# Altium footprint library AUVic_PCB_Library_Transistors.PcbLib: 14 footprints
Each footprint in its own frame and in the unit in brackets; x right, y up, seen from the top. Pads: shape width x height; smd on the part's side, far side on the other; paste and mask are expansions set on the pad; w line width, h text height; cw(c..) or ccw(c..) is an arc to the next point about the centre after c.
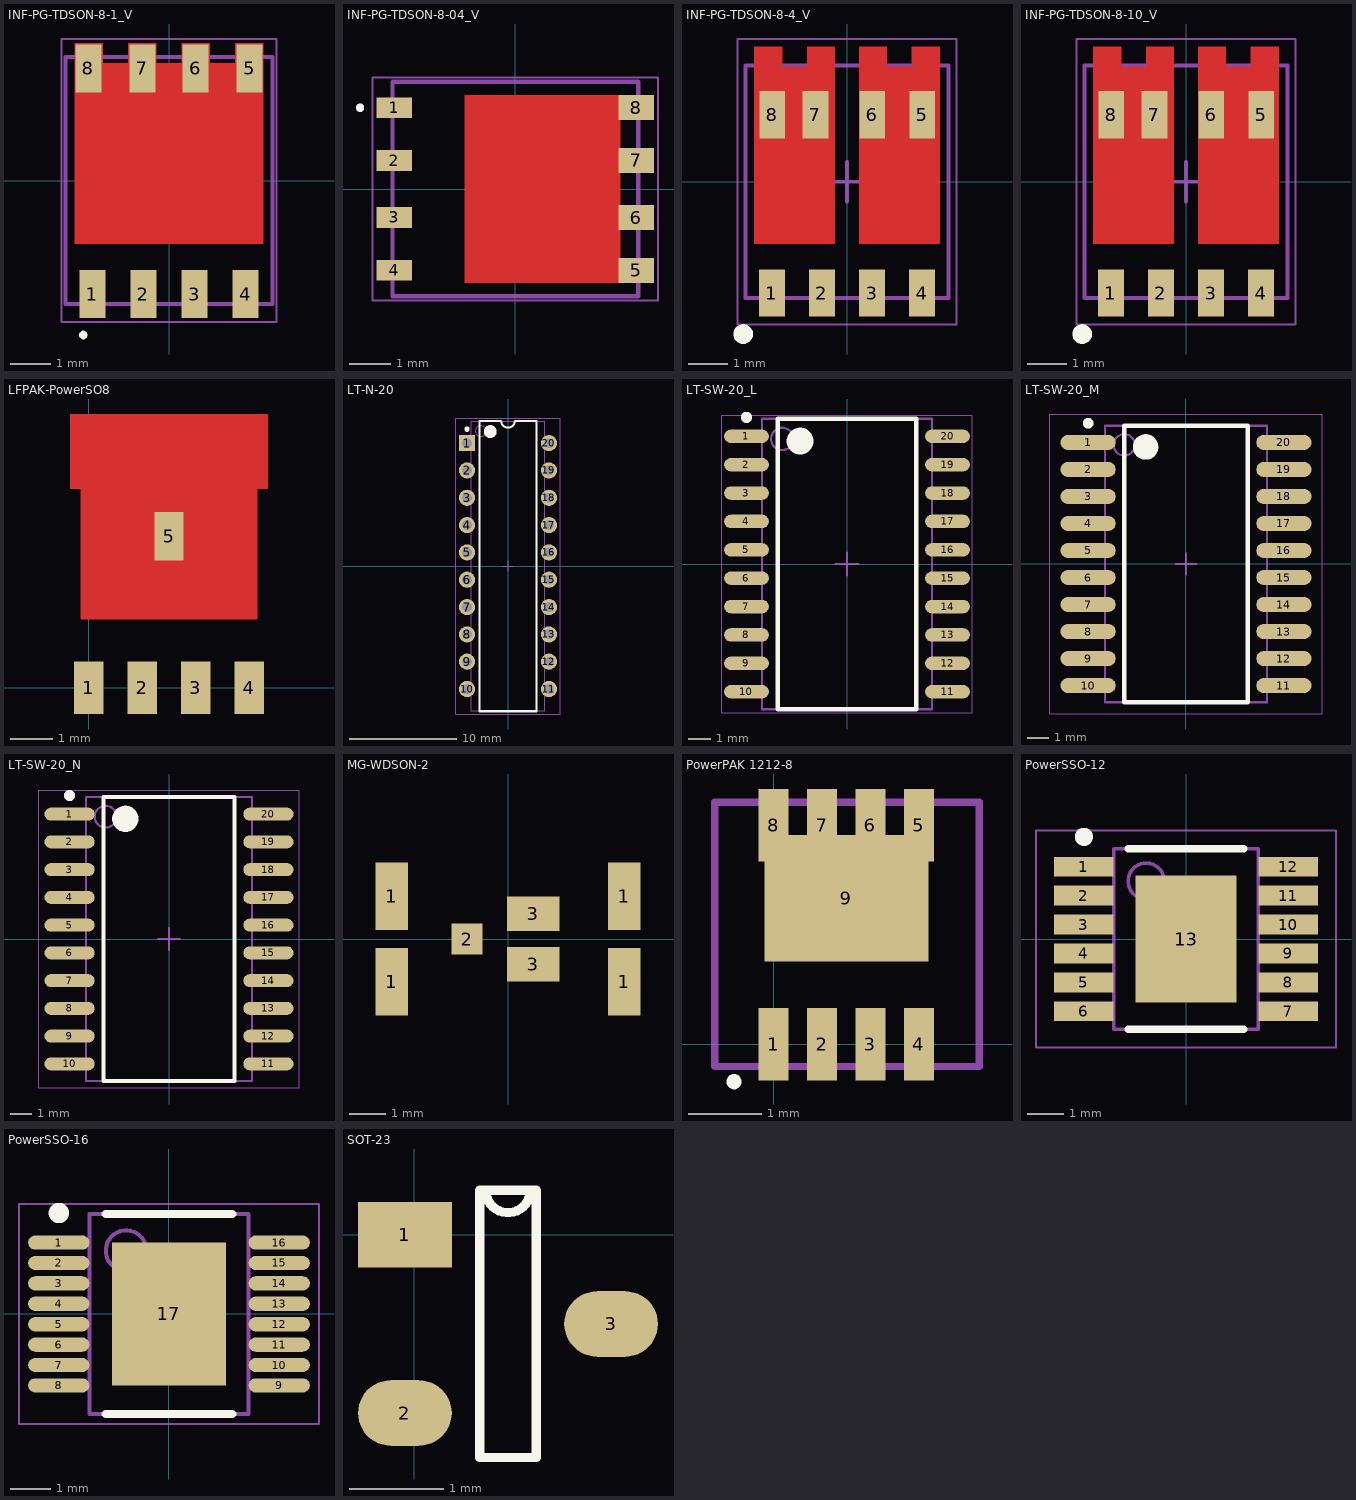
[diagram p0: the footprints below, top view; thin cyan lines are the x and y axes]

## INF-PG-TDSON-8-1_V [mm] "TDSON, 8-Leads, Body 6.15x5.15mm, Pitch 1.27mm"
height 1
pads (8):
  rect 0.65x1.2 smd: 1(-1.905,-2.825) 2(-0.635,-2.825) 3(0.635,-2.825) 4(1.905,-2.825) 5(2.007,2.794) 6(0.66,2.794) 7(-0.66,2.794) 8(-2.007,2.794)
Top Layer:
  region: -2.35,2.925 -2.35,-1.575 2.35,-1.575 2.35,2.925
  region: -2.35,2.925 -1.65,2.925 -1.65,3.425 -2.35,3.425
  region: 1.65,2.925 2.35,2.925 2.35,3.425 1.65,3.425
  region: -1.015,2.925 -0.315,2.925 -0.315,3.425 -1.015,3.425
  region: 0.315,2.925 1.015,2.925 1.015,3.425 0.315,3.425
Top Overlay:
  region: -2.234,-3.842 -2.234,-3.862 -2.218,-3.899 -2.19,-3.927 -2.153,-3.942 -2.134,-3.942 -2.114,-3.942 -2.077,-3.927 -2.049,-3.899 -2.034,-3.862 -2.034,-3.842 -2.034,-3.822 -2.049,-3.785 -2.077,-3.757 -2.114,-3.742 -2.134,-3.742 -2.153,-3.742 -2.19,-3.757 -2.218,-3.785 -2.234,-3.822
Body Top:
  lines w0.1: -2.575,-3.075 -2.575,3.075 2.575,3.075 2.575,-3.075 -2.575,-3.075
  text ".Designator" at 0.8,-5.2 h1
Courtyard Top:
  lines w0.05: -2.675,-3.525 -2.675,3.525 2.675,3.525 2.675,-3.525 -2.675,-3.525
  lines w0.1: -0.5,0 0.5,0 ; 0,-0.5 0,0.5
3D body "User Library-TDSON-8-1.step": height 1, standoff 0, extent -2.675,-3.075 2.675,3.075

## INF-PG-TDSON-8-04_V [mm] "SON, 8-Leads, Body 5.9x5.15mm, Pitch 1.27mm"
height 1.1
pads (8):
  rect 0.85x0.5 smd: 1(-2.9,1.95) 2(-2.9,0.68) 3(-2.9,-0.68) 4(-2.9,-1.95)
  rect 0.85x0.6 smd: 5(2.9,-1.955) 6(2.9,-0.685) 7(2.9,0.685) 8(2.9,1.955)
Top Layer:
  region: -1.225,2.255 -1.225,-2.255 2.525,-2.255 2.525,2.255
Top Overlay:
  circle w0.1: c-3.725,1.95 r0.05
Body Top:
  lines w0.1: -2.95,-2.575 2.95,-2.575 2.95,2.575 -2.95,2.575 -2.95,-2.575
Courtyard Top:
  lines w0.05: -3.425,-2.675 3.425,-2.675 3.425,2.675 -3.425,2.675 -3.425,-2.675
  lines w0.1: -0.5,0 0.5,0 ; 0,-0.5 0,0.5
3D body "User Library-TDSON-8-1.step": height 1, standoff 0, extent -3.075,-2.675 3.075,2.675

## INF-PG-TDSON-8-4_V [mm] "SON, 8-Leads, Body 5.9x5.15mm, Pitch 1.27mm"
height 1
pads (8):
  rect 0.65x1.2 smd: 1(-1.905,-2.825) 2(-0.635,-2.825) 3(0.635,-2.825) 4(1.905,-2.825) 5(1.91,1.7) 6(0.64,1.7) 7(-0.8,1.7) 8(-1.9,1.7)
Top Layer:
  region: -2.35,3.425 -1.65,3.425 -1.65,2.925 -1.015,2.925 -1.015,3.425 -0.315,3.425 -0.315,-1.575 -2.35,-1.575
  region: 2.35,3.425 1.65,3.425 1.65,2.925 1.015,2.925 1.015,3.425 0.315,3.425 0.315,-1.575 2.35,-1.575
Top Overlay:
  circle w0.25: c-2.635,-3.868 r0.125
Body Top:
  lines w0.1: -2.575,-2.95 -2.575,2.95 2.575,2.95 2.575,-2.95 -2.575,-2.95
Courtyard Top:
  lines w0.05: -2.775,-3.625 -2.775,3.625 2.775,3.625 2.775,-3.625 -2.775,-3.625
  lines w0.1: -0.5,0 0.5,0 ; 0,-0.5 0,0.5
3D body: height 1, standoff 0.25, extent -2.575,-2.95 2.575,2.95

## INF-PG-TDSON-8-10_V [mm] "SON, 8-Leads, Body 5.9x5.15mm, Pitch 1.27mm"
height 1
pads (8):
  rect 0.65x1.2 smd: 1(-1.905,-2.825) 2(-0.635,-2.825) 3(0.635,-2.825) 4(1.905,-2.825) 5(1.91,1.7) 6(0.64,1.7) 7(-0.8,1.7) 8(-1.9,1.7)
Top Layer:
  region: -2.35,3.425 -1.65,3.425 -1.65,2.925 -1.015,2.925 -1.015,3.425 -0.315,3.425 -0.315,-1.575 -2.35,-1.575
  region: 2.35,3.425 1.65,3.425 1.65,2.925 1.015,2.925 1.015,3.425 0.315,3.425 0.315,-1.575 2.35,-1.575
Top Overlay:
  circle w0.25: c-2.635,-3.868 r0.125
Body Top:
  lines w0.1: -2.575,-2.95 -2.575,2.95 2.575,2.95 2.575,-2.95 -2.575,-2.95
Courtyard Top:
  lines w0.05: -2.775,-3.625 -2.775,3.625 2.775,3.625 2.775,-3.625 -2.775,-3.625
  lines w0.1: -0.5,0 0.5,0 ; 0,-0.5 0,0.5
3D body: height 1, standoff 0.25, extent -2.575,-2.95 2.575,2.95

## LFPAK-PowerSO8 [mm] "LFPAK-PowerSO8"
pads (5):
  rect 0.7x1.25 smd: 1(0,0) 2(1.27,0) 3(2.54,0) 4(3.81,0)
  rect 0.7x1.15 smd: 5(1.905,3.6)
Top Layer:
  region: -0.195,1.625 4.005,1.625 4.005,4.725 4.255,4.725 4.255,6.5 3.74,6.5 3.1,6.5 1.9,6.5 -0.445,6.5 -0.445,4.725 -0.195,4.725
3D body "User Library-LFPAK.STEP": height 1.09, standoff -0.01, extent -0.595,-0.4 4.405,6.2

## LT-N-20 [mm] "DIP, 20-Leads, Body 26.924x6.477mm, Pitch 2.54mm"
height 4.2
pads (20):
  rect 1.5x1.5 hole 0.9: 1(-3.81,11.43)
  round 1.5 hole 0.9: 2(-3.81,8.89) 3(-3.81,6.35) 4(-3.81,3.81) 5(-3.81,1.27) 6(-3.81,-1.27) 7(-3.81,-3.81) 8(-3.81,-6.35) 9(-3.81,-8.89) 10(-3.81,-11.43) 11(3.81,-11.43) 12(3.81,-8.89) 13(3.81,-6.35) 14(3.81,-3.81) 15(3.81,-1.27) 16(3.81,1.27) 17(3.81,3.81) 18(3.81,6.35) 19(3.81,8.89) 20(3.81,11.43)
Top Overlay:
  circle w0.6: c-1.65,12.5 r0.3
  circle w0.25: c-3.81,12.73 r0.125
  lines w0.2: -2.65,-13.5 2.65,-13.5 2.65,13.5 0.635,13.5 cw(c0,13.5) -0.635,13.5 -2.65,13.5 -2.65,-13.5
Body Top:
  circle w0.1: c-2.525,12.55 r0.5
  lines w0.1: -3.425,-13.45 3.425,-13.45 3.425,13.45 -3.425,13.45 -3.425,-13.45
Courtyard Top:
  lines w0.05: -4.85,-13.75 4.85,-13.75 4.85,13.75 -4.85,13.75 -4.85,-13.75
  lines w0.1: -0.5,0 0.5,0 ; 0,-0.5 0,0.5
3D body: height 4.2, standoff 0.51, extent -3.425,-13.45 3.425,13.45
3D body: height 0, standoff -1.6, extent 3.675,11.07 3.945,11.79
3D body: height 2.49, standoff 2.21, extent 3.425,10.93 3.945,11.93
3D body: height 2.22, standoff 0, extent 3.675,10.93 3.945,11.93
3D body: height 0, standoff -1.6, extent 3.675,8.53 3.945,9.25
3D body: height 2.49, standoff 2.21, extent 3.425,8.39 3.945,9.39
3D body: height 2.22, standoff 0, extent 3.675,8.39 3.945,9.39
3D body: height 0, standoff -1.6, extent 3.675,5.99 3.945,6.71
3D body: height 2.49, standoff 2.21, extent 3.425,5.85 3.945,6.85
3D body: height 2.22, standoff 0, extent 3.675,5.85 3.945,6.85
3D body: height 0, standoff -1.6, extent 3.675,3.45 3.945,4.17
3D body: height 2.49, standoff 2.21, extent 3.425,3.31 3.945,4.31
3D body: height 2.22, standoff 0, extent 3.675,3.31 3.945,4.31
3D body: height 0, standoff -1.6, extent 3.675,0.91 3.945,1.63
3D body: height 2.49, standoff 2.21, extent 3.425,0.77 3.945,1.77
3D body: height 2.22, standoff 0, extent 3.675,0.77 3.945,1.77
3D body: height 0, standoff -1.6, extent 3.675,-1.63 3.945,-0.91
3D body: height 2.49, standoff 2.21, extent 3.425,-1.77 3.945,-0.77
3D body: height 2.22, standoff 0, extent 3.675,-1.77 3.945,-0.77
3D body: height 0, standoff -1.6, extent 3.675,-4.17 3.945,-3.45
3D body: height 2.49, standoff 2.21, extent 3.425,-4.31 3.945,-3.31
3D body: height 2.22, standoff 0, extent 3.675,-4.31 3.945,-3.31
3D body: height 0, standoff -1.6, extent 3.675,-6.71 3.945,-5.99
3D body: height 2.49, standoff 2.21, extent 3.425,-6.85 3.945,-5.85
3D body: height 2.22, standoff 0, extent 3.675,-6.85 3.945,-5.85
3D body: height 0, standoff -1.6, extent 3.675,-9.25 3.945,-8.53
3D body: height 2.49, standoff 2.21, extent 3.425,-9.39 3.945,-8.39
3D body: height 2.22, standoff 0, extent 3.675,-9.39 3.945,-8.39
3D body: height 0, standoff -1.6, extent 3.675,-11.79 3.945,-11.07
3D body: height 2.49, standoff 2.21, extent 3.425,-11.93 3.945,-10.93
3D body: height 2.22, standoff 0, extent 3.675,-11.93 3.945,-10.93
3D body: height 0, standoff -1.6, extent -3.945,-11.79 -3.675,-11.07
3D body: height 2.49, standoff 2.21, extent -3.945,-11.93 -3.425,-10.93
3D body: height 2.22, standoff 0, extent -3.945,-11.93 -3.675,-10.93
3D body: height 0, standoff -1.6, extent -3.945,-9.25 -3.675,-8.53
3D body: height 2.49, standoff 2.21, extent -3.945,-9.39 -3.425,-8.39
3D body: height 2.22, standoff 0, extent -3.945,-9.39 -3.675,-8.39
3D body: height 0, standoff -1.6, extent -3.945,-6.71 -3.675,-5.99
3D body: height 2.49, standoff 2.21, extent -3.945,-6.85 -3.425,-5.85
3D body: height 2.22, standoff 0, extent -3.945,-6.85 -3.675,-5.85
3D body: height 0, standoff -1.6, extent -3.945,-4.17 -3.675,-3.45
3D body: height 2.49, standoff 2.21, extent -3.945,-4.31 -3.425,-3.31
3D body: height 2.22, standoff 0, extent -3.945,-4.31 -3.675,-3.31
3D body: height 0, standoff -1.6, extent -3.945,-1.63 -3.675,-0.91
3D body: height 2.49, standoff 2.21, extent -3.945,-1.77 -3.425,-0.77
3D body: height 2.22, standoff 0, extent -3.945,-1.77 -3.675,-0.77
3D body: height 0, standoff -1.6, extent -3.945,0.91 -3.675,1.63
3D body: height 2.49, standoff 2.21, extent -3.945,0.77 -3.425,1.77
3D body: height 2.22, standoff 0, extent -3.945,0.77 -3.675,1.77
3D body: height 0, standoff -1.6, extent -3.945,3.45 -3.675,4.17
3D body: height 2.49, standoff 2.21, extent -3.945,3.31 -3.425,4.31
3D body: height 2.22, standoff 0, extent -3.945,3.31 -3.675,4.31
3D body: height 0, standoff -1.6, extent -3.945,5.99 -3.675,6.71
3D body: height 2.49, standoff 2.21, extent -3.945,5.85 -3.425,6.85
3D body: height 2.22, standoff 0, extent -3.945,5.85 -3.675,6.85
3D body: height 0, standoff -1.6, extent -3.945,8.53 -3.675,9.25
3D body: height 2.49, standoff 2.21, extent -3.945,8.39 -3.425,9.39
3D body: height 2.22, standoff 0, extent -3.945,8.39 -3.675,9.39
3D body: height 0, standoff -1.6, extent -3.945,11.07 -3.675,11.79
3D body: height 2.49, standoff 2.21, extent -3.945,10.93 -3.425,11.93
3D body: height 2.22, standoff 0, extent -3.945,10.93 -3.675,11.93

## LT-SW-20_L [mm] "SOIC, 20-Leads, Body 12.8x7.49mm, Pitch 1.27mm, IPC High Density"
height 2.65
pads (20):
  oval 2x0.6 smd: 1(-4.5,5.715) 2(-4.5,4.445) 3(-4.5,3.175) 4(-4.5,1.905) 5(-4.5,0.635) 6(-4.5,-0.635) 7(-4.5,-1.905) 8(-4.5,-3.175) 9(-4.5,-4.445) 10(-4.5,-5.715) 11(4.5,-5.715) 12(4.5,-4.445) 13(4.5,-3.175) 14(4.5,-1.905) 15(4.5,-0.635) 16(4.5,0.635) 17(4.5,1.905) 18(4.5,3.175) 19(4.5,4.445) 20(4.5,5.715)
Top Overlay:
  circle w0.6: c-2.1,5.5 r0.3
  circle w0.25: c-4.5,6.565 r0.125
  lines w0.2: -3.1,-6.5 3.1,-6.5 3.1,6.5 -3.1,6.5 -3.1,-6.5
Body Top:
  circle w0.1: c-2.9,5.6 r0.5
  lines w0.1: -3.8,-6.5 3.8,-6.5 3.8,6.5 -3.8,6.5 -3.8,-6.5
Courtyard Top:
  lines w0.05: -5.6,-6.65 5.6,-6.65 5.6,6.65 -5.6,6.65 -5.6,-6.65
  lines w0.1: -0.5,0 0.5,0 ; 0,-0.5 0,0.5
3D body: height 2.65, standoff 0.1, extent -3.8,-6.5 3.8,6.5

## LT-SW-20_M [mm] "SOIC, 20-Leads, Body 12.8x7.49mm, Pitch 1.27mm, IPC Low Density"
height 2.65
pads (20):
  oval 2.6x0.7 smd: 1(-4.6,5.715) 2(-4.6,4.445) 3(-4.6,3.175) 4(-4.6,1.905) 5(-4.6,0.635) 6(-4.6,-0.635) 7(-4.6,-1.905) 8(-4.6,-3.175) 9(-4.6,-4.445) 10(-4.6,-5.715) 11(4.6,-5.715) 12(4.6,-4.445) 13(4.6,-3.175) 14(4.6,-1.905) 15(4.6,-0.635) 16(4.6,0.635) 17(4.6,1.905) 18(4.6,3.175) 19(4.6,4.445) 20(4.6,5.715)
Top Overlay:
  circle w0.6: c-1.9,5.5 r0.3
  circle w0.25: c-4.6,6.615 r0.125
  lines w0.2: -2.9,-6.5 2.9,-6.5 2.9,6.5 -2.9,6.5 -2.9,-6.5
Body Top:
  circle w0.1: c-2.9,5.6 r0.5
  lines w0.1: -3.8,-6.5 3.8,-6.5 3.8,6.5 -3.8,6.5 -3.8,-6.5
Courtyard Top:
  lines w0.05: -6.4,-7.05 6.4,-7.05 6.4,7.05 -6.4,7.05 -6.4,-7.05
  lines w0.1: -0.5,0 0.5,0 ; 0,-0.5 0,0.5
3D body: height 2.65, standoff 0.1, extent -3.8,-6.5 3.8,6.5

## LT-SW-20_N [mm] "SOIC, 20-Leads, Body 12.8x7.49mm, Pitch 1.27mm, IPC Medium Density"
height 2.65
pads (20):
  oval 2.3x0.6 smd: 1(-4.55,5.715) 2(-4.55,4.445) 3(-4.55,3.175) 4(-4.55,1.905) 5(-4.55,0.635) 6(-4.55,-0.635) 7(-4.55,-1.905) 8(-4.55,-3.175) 9(-4.55,-4.445) 10(-4.55,-5.715) 11(4.55,-5.715) 12(4.55,-4.445) 13(4.55,-3.175) 14(4.55,-1.905) 15(4.55,-0.635) 16(4.55,0.635) 17(4.55,1.905) 18(4.55,3.175) 19(4.55,4.445) 20(4.55,5.715)
Top Overlay:
  circle w0.25: c-4.55,6.565 r0.125
  circle w0.6: c-2,5.5 r0.3
  lines w0.2: -3,-6.5 -3,6.5 3,6.5 3,-6.5 -3,-6.5
Body Top:
  circle w0.1: c-2.9,5.6 r0.5
  lines w0.1: -3.8,-6.5 -3.8,6.5 3.8,6.5 3.8,-6.5 -3.8,-6.5
Courtyard Top:
  lines w0.05: -5.95,-6.8 -5.95,6.8 5.95,6.8 5.95,-6.8 -5.95,-6.8
  lines w0.1: -0.5,0 0.5,0 ; 0,-0.5 0,0.5
3D body: height 2.65, standoff 0.1, extent -3.8,-6.5 3.8,6.5

## MG-WDSON-2 [mm] "CanPAK MG-WDSON-2 MN"
pads (7):
  rect 0.9x1.85 smd: 1(-3.2,-1.175) 1(-3.2,1.175) 1(3.2,-1.175) 1(3.2,1.175)
  rect 0.85x0.85 smd: 2(-1.125,0)
  rect 1.45x0.95 smd: 3(0.695,-0.7) 3(0.695,0.7)
3D body "User Library-MG-WDSON-2.STEP": height 0.71, standoff 0, extent -3.175,-2.44 3.175,2.61

## PowerPAK 1212-8 [mm] "PowerPAK MOSFET Package"
height 1
pads (9):
  rect 0.405x0.99 smd: 1(0,0) 2(0.66,0) 3(1.32,0) 4(1.98,0) 5(1.98,2.985) 6(1.32,2.985) 7(0.66,2.985) 8(0,2.985)
  rect 2.235x1.725 smd: 9(0.99,1.993)
Top Overlay:
  region: -0.638,-0.508 -0.638,-0.528 -0.623,-0.564 -0.595,-0.592 -0.558,-0.608 -0.538,-0.608 -0.518,-0.608 -0.482,-0.592 -0.453,-0.564 -0.438,-0.528 -0.438,-0.508 -0.438,-0.488 -0.453,-0.451 -0.482,-0.423 -0.518,-0.408 -0.538,-0.408 -0.558,-0.408 -0.595,-0.423 -0.623,-0.451 -0.638,-0.488
Body Top:
  lines w0.1: -0.8,-0.3 2.8,-0.3 2.8,3.3 -0.8,3.3 -0.8,-0.3
  text ".Designator" at 1.8,-2.3 h1
3D body "PowerPAK 1212-8-SiS892DN.step": height 1.04, standoff 0, extent -0.65,-0.15 2.65,3.15

## PowerSSO-12 [mm] "SOP, 12-Leads, Body 4.90x3.90mm, Pitch 0.80mm, Thermal Pad 3.50x2.80mm, IPC Low Density"
height 1.7
pads (13):
  rect 1.65x0.55 smd: 1(-2.825,2) 2(-2.825,1.2) 3(-2.825,0.4) 4(-2.825,-0.4) 5(-2.825,-1.2) 6(-2.825,-2) 7(2.825,-2) 8(2.825,-1.2) 9(2.825,-0.4) 10(2.825,0.4) 11(2.825,1.2) 12(2.825,2)
  rect 2.8x3.5 smd: 13(0,0)
Top Overlay:
  circle w0.25: c-2.825,2.825 r0.125
  lines w0.2: -1.6,-2.5 1.6,-2.5 ; -1.6,2.5 1.6,2.5
Body Top:
  circle w0.1: c-1.1,1.6 r0.5
  lines w0.1: -2,-2.5 2,-2.5 2,2.5 -2,2.5 -2,-2.5
Courtyard Top:
  lines w0.05: -4.15,-3 4.15,-3 4.15,3 -4.15,3 -4.15,-3
  lines w0.1: -0.5,0 0.5,0 ; 0,-0.5 0,0.5
3D body "PowerSS0-12.step": height 1.7, standoff 0, extent -3,-2.5 3,2.5

## PowerSSO-16 [mm] "SSOP, 16-Leads, Body 4.90x3.90mm, Pitch 0.50mm, Thermal Pad 3.50x2.80mm, IPC Medium Density"
height 1.7
pads (17):
  oval 1.5x0.35 smd: 1(-2.7,1.75) 2(-2.7,1.25) 3(-2.7,0.75) 4(-2.7,0.25) 5(-2.7,-0.25) 6(-2.7,-0.75) 7(-2.7,-1.25) 8(-2.7,-1.75) 9(2.7,-1.75) 10(2.7,-1.25) 11(2.7,-0.75) 12(2.7,-0.25) 13(2.7,0.25) 14(2.7,0.75) 15(2.7,1.25) 16(2.7,1.75)
  rect 2.8x3.5 smd: 17(0,0)
Top Overlay:
  circle w0.25: c-2.7,2.475 r0.125
  lines w0.2: -1.55,-2.45 1.55,-2.45 ; -1.55,2.45 1.55,2.45
Body Top:
  circle w0.1: c-1.05,1.55 r0.5
  lines w0.1: -1.95,-2.45 1.95,-2.45 1.95,2.45 -1.95,2.45 -1.95,-2.45
Courtyard Top:
  lines w0.05: -3.675,-2.7 3.675,-2.7 3.675,2.7 -3.675,2.7 -3.675,-2.7
  lines w0.1: -0.5,0 0.5,0 ; 0,-0.5 0,0.5
3D body "SSOP50P600X170_HS-17N.step": height 1.7, standoff 0, extent -3,-2.45 3,2.45

## SOT-23 [mm]
pads (3):
  rect 1x0.7 smd: 1(-0.1,0)
  oval 1x0.7 smd: 2(-0.1,-1.9) 3(2.1,-0.95)
Top Overlay:
  lines w0.1: 0.7,-2.375 1.3,-2.375 1.3,0.475 0.763,0.475 ccw(c1,0.475) 1.238,0.475 0.7,0.475 0.7,-2.375
3D body "SW3DPS-SOT-23-DEFAULT.STEP": height 1.06, standoff -0.04, extent -0.25,-2.4 2.25,0.6